# Altium footprint library Relay.PcbLib: 2 footprints
Each footprint in its own frame and in the unit in brackets; x right, y up, seen from the top. Pads: shape width x height; smd on the part's side, far side on the other; paste and mask are expansions set on the pad; w line width, h text height; cw(c..) or ccw(c..) is an arc to the next point about the centre after c.
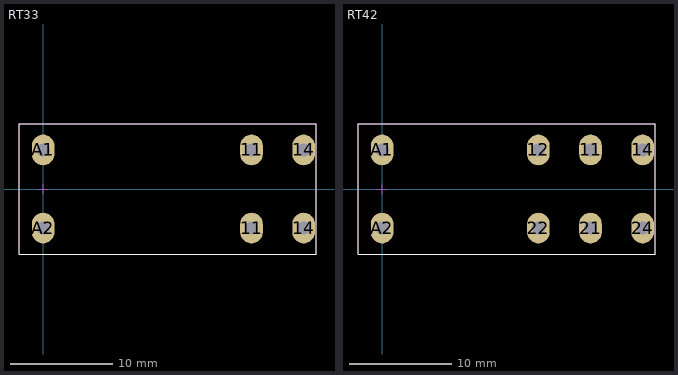
[diagram p0: the footprints below, top view; thin cyan lines are the x and y axes]

## RT33 [mm] "Tyco RT33 1NO Relay"
height 16
pads (6):
  oval 2.2x3 hole 1.3 unplated paste+0.05: 11(20.32,-3.81) 11(20.32,3.81) 14(25.4,-3.81) 14(25.4,3.81) A1(0,3.81) A2(0,-3.81)
Top Overlay:
  lines w0.1: -2.35,-6.35 -2.35,6.35 26.65,6.35 26.65,-6.35 -2.35,-6.35
Top Assembly (Mech3):
  lines w0.1: -2.35,-6.35 -2.35,6.35 26.65,6.35 26.65,-6.35 -2.35,-6.35
Top Courtyard:
  lines w0.1: -0.5,0 0.5,0 ; 0,-0.5 0,0.5 ; -2.35,-6.35 26.65,-6.35 26.65,6.35 -2.35,6.35 -2.35,-6.35
3D body "TE RT1 orange 1coil no_only.stp": height 15.7, standoff -3.6, extent -2.35,-6.35 26.65,6.35

## RT42 [mm] "Tyco RT42 2CO Relay"
height 16
pads (8):
  oval 2.2x3 hole 1.3 unplated paste+0.05: 11(20.32,3.81) 12(15.24,3.81) 14(25.4,3.81) 21(20.32,-3.81) 22(15.24,-3.81) 24(25.4,-3.81) A1(0,3.81) A2(0,-3.81)
Top Overlay:
  lines w0.1: -2.35,-6.35 -2.35,6.35 26.65,6.35 26.65,-6.35 -2.35,-6.35
Top Assembly (Mech3):
  lines w0.1: -2.35,-6.35 -2.35,6.35 26.65,6.35 26.65,-6.35 -2.35,-6.35
Top Courtyard:
  lines w0.1: -0.5,0 0.5,0 ; 0,-0.5 0,0.5 ; -2.35,-6.35 26.65,-6.35 26.65,6.35 -2.35,6.35 -2.35,-6.35
3D body "TE RT1 orange 1coil.stp": height 15.7, standoff -3.6, extent -2.35,-6.35 26.65,6.35